# Altium schematic symbol library capacitors.SchLib: 27 symbols
Pins are listed as number, name and electrical type; pins without a type are passive.

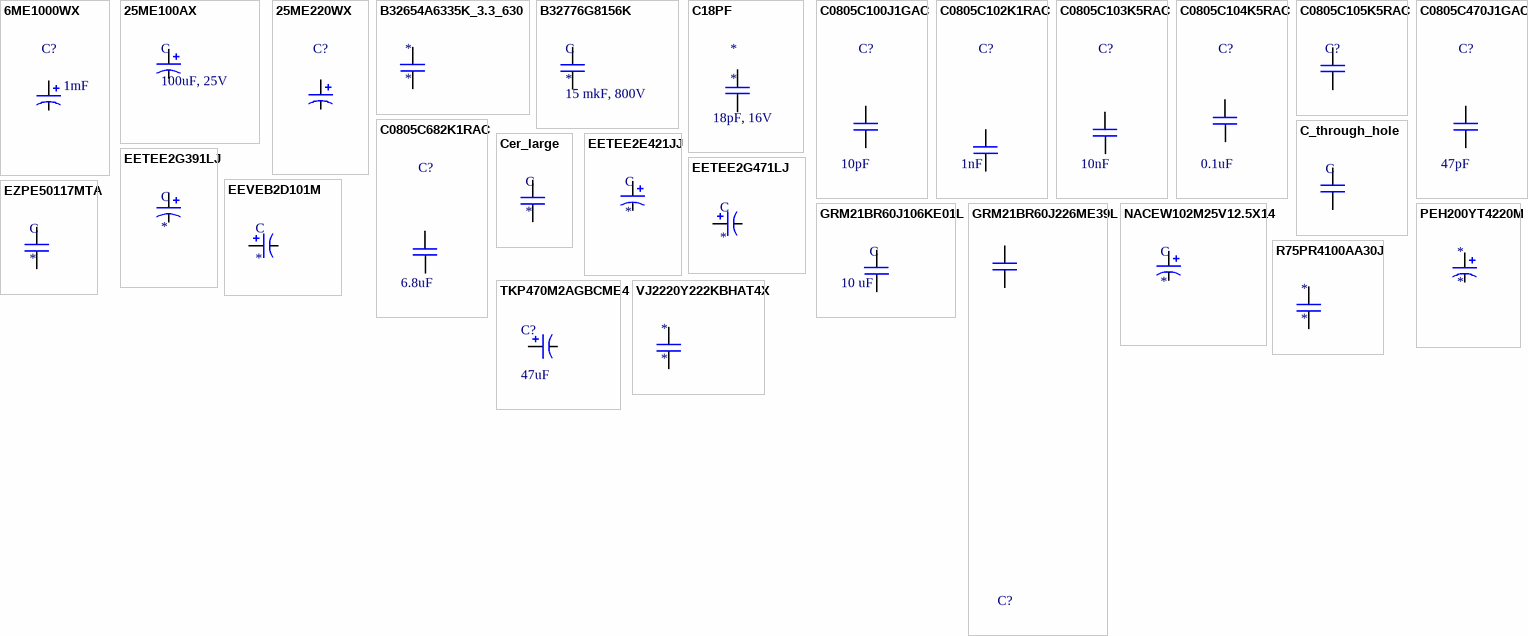
[diagram p0: symbols 6ME1000WX to VJ2220Y222KBHAT4X]

## 6ME1000WX
designator C?  value 1mF  (hidden comment: 6ME1000WX)
1m 6.3V; Manufacturer: Suncon; Order code: 6723258; Supplier: Elfa; Price: 0,37; datasheet: https://www1.elfa.se/data1/wwwroot/assets/datasheets/06723225.pdf; Type: 6ME1000WX; Package: 5mm
footprint D_10, RM_5
pins: 1, 2

## 25ME100AX
designator C, comment 100uF, 25V
Manufacturer: Suncon; Order code: 67-228-70; Type: 25ME100AX; Price: 0,24; Package: 2.5mm; Supplier: Elfa; Value: 100uF, 25V
footprint CapElectrolitic6.3x11
pins: 1, 2

## 25ME220WX
designator C?  (value not drawn)
220uF, 25V; Manufacture: Suncon; Order code: 6723423; Type: 25ME220WX; Supplier: Elfa; datasheet: https://www1.elfa.se/data1/wwwroot/assets/datasheets/me-wx-series_eng_tds.pdf; Price: 0,25; Value: 220uF, 25V; Package: 3.5mm
footprint D_8, RM_3.5
pins: 1, 2

## B32654A6335K_3.3_630
designator *
footprint 31.5x22
pins: 1, 2

## B32776G8156K
designator C  value 15 mkF, 800V
Manufacturer: EPCOS; Order code: 1781919; Type: B32776G8156K; Price: 9,37; Package: 37x10; Supplier: Farnell
footprint EpcosCap37.5x10.2mm
pins: 1, 2

## C18PF
designator *  value 18pF, 16V
Type: 1%; Order code: *; Package: smd 0603; Price: *
footprint smd_0603
pins: 1, 2

## C0805C100J1GAC
designator C?  value 10pF  (hidden comment: C0805C100J1GAC)
10p, 100V; Manufacturer: Kemet; Order code: 6576805; Supplier: Elfa; Price: 0,266; Type: C0805C100J1GAC; Package: smd 0805
footprint C_0805
pins: 1, 2

## C0805C102K1RAC
designator C?  value 1nF  (hidden comment: C0805C102K1RAC)
1n, 100V; Manufacturer: Kemet; Order code: 6576441; Supplier: Elfa; Price: 0,2; Type: C0805C102K1RAC; Package: smd 0805
footprint C_0805
pins: 1, 2

## C0805C103K5RAC
designator C?  value 10nF  (hidden comment: C0805C103K5RAC)
10n, 50V; Manufacturer: Kemet; Order code: 6576565; Supplier: Elfa; Price: 0,06; Type: C0805C103K5RAC; Package: smd 0805
footprint C_0805
pins: 1, 2

## C0805C104K5RAC
designator C?  value 0.1uF  (hidden comment: C0805C104K5RAC)
0.1u, 50V; Manufacturer: Kemet; Order code: 6576631; Supplier: Elfa; Price: 0,06; Type: C0805C104K5RAC; Package: smd 0805
footprint C_0805
pins: 1, 2

## C0805C105K5RAC
designator C?  (value not drawn)
1u, 16V; Manufacturer: Kemet; Order code: 6580971; Supplier: Elfa; value: 1u; Price: 0,469; Type: C0805C105K5RAC; Package: smd 0805
footprint C_0805
pins: 1, 2

## C0805C470J1GAC
designator C?  value 47pF  (hidden comment: C0805C470J1GAC)
47p, 100V; Manufacturer: Kemet; Order code: 6576888; Supplier: Elfa; Price: 0,06; Type: C0805C470J1GAC; Package: smd 0805
footprint C_0805
pins: 1, 2

## C0805C682K1RAC
designator C?  value 6.8uF  (hidden comment: C0805C682K1RAC)
6.8u, 100V; Manufacturer: Kemet; Order code: 6580909; Supplier: Elfa; Price: 0,33; Type: C0805C682K1RAC; Package: smd 0805
footprint C_0805
pins: 1, 2

## C_through_hole
designator C  (value not drawn)
Order code: 1141792; Value: 1nF, 1kVa; Type: ceramic cap; Supplier: Farnel; Package: 5mm; Price: 0.127
footprint 5mm
pins: 1, 2

## Cer_large
designator C
Order code: 1759466; Value: 22mkF; Type: 16V; Supplier: Farnel; Price: 0.407; Package: 1210
footprint CAPC3227X25N (Chip Capacitor, 2-Leads, Body 3.2x2.7mm, IPC Medium Density)
pins: 1, 2

## EETEE2E421JJ
designator C
250V, 0.42mF; Order code: 11027209; Value: 0.42mF; Type: 250V; Supplier: Elfa; Package: 25x35; Price: 4.27
footprint Cap35x45
pins: 1, 2

## EETEE2G391LJ
designator C
400V, 0.39mF; Order code: 11027138; Value: 0.39mF; Type: 400V; Supplier: Elfa; Package: 35x45; Price: 10.3
footprint Cap35x45
pins: 1, 2

## EETEE2G471LJ
designator C
Manufacturer: Panasonic; Value: 2.2 mF/200V; Order code: 10-271-36; Type: EETEE2G471LJ; Supplier: Elfa; Package: 35x45; Price: 16.5
footprint Cap35x45
pins: 1, 2

## EEVEB2D101M
designator C
Value: 100 mkF; Order code: 2326341; Type: 200V; Supplier: Farnell; Price: 4.72; Package: smd
footprint Radial_Cap18mm
pins: 1, 2

## EZPE50117MTA
designator C
Manufacturer: Panasonic; Value: 110 µF; Order code: 10-596-14; Type: 500 VDC; Price: 25.4; Supplier: Elfa; Package: *
footprint 4_through_holes
pins: 1, 2

## GRM21BR60J106KE01L
designator C  value 10 uF  (hidden comment: *)
10%, 6.3V; Manufacturer: Murata; Order code: 65-721-37; Type: 10%, 6.3V; Price: 0.36; Supplier: Elfa; Package: smd 0805
footprint SMD_0805
pins: 1, 2

## GRM21BR60J226ME39L
designator C?  (value not drawn)
22u, 6.3V; Manufacturer: Murata; value: 22 uF; Order code: 6576812; Supplier: Elfa; Price: 0,383; datasheet: https://www1.elfa.se/data1/wwwroot/assets/datasheets/GRMSeries_HighDielectricType_eng.pdf; Type: GRM21BR60J226ME39L; Package: smd 0805
footprint C_0805
pins: 1, 2

## NACEW102M25V12.5X14
designator C
Value: 1 mF; Order code: 16731346; Type: 25V; Supplier: Elfa; Price: 3,28
footprint Cap_pol
pins: 1, 2

## PEH200YT4220M
designator *
pins: 1, 2

## R75PR4100AA30J
designator *
footprint 32x22
pins: 1, 2

## TKP470M2AGBCME4
designator C?  value 47uF  (hidden comment: *)
47 uF, 100 VDC; Manufacturer: Jamicon; Order code: 6716609; Type: TKP470M2AGBCME4; Price: 0,21; datasheet: https://www1.elfa.se/data1/wwwroot/assets/datasheets/tk-series_eng_tds.pdf; Supplier: Elfa; Package: 5mm
footprint D_10, RM_5
pins: 1, 2

## VJ2220Y222KBHAT4X
designator *
Value: 2200 pF; Order code: 2407298; Supplier: Farnell
footprint SMD_2220
pins: 1, 2